# Altium footprint library con-dil.PCBLIB: 24 footprints (part 1 of 2)
Each footprint in its own frame and in the unit in brackets; x right, y up, seen from the top. Pads: shape width x height; smd on the part's side, far side on the other; paste and mask are expansions set on the pad; w line width, h text height; cw(c..) or ccw(c..) is an arc to the next point about the centre after c.
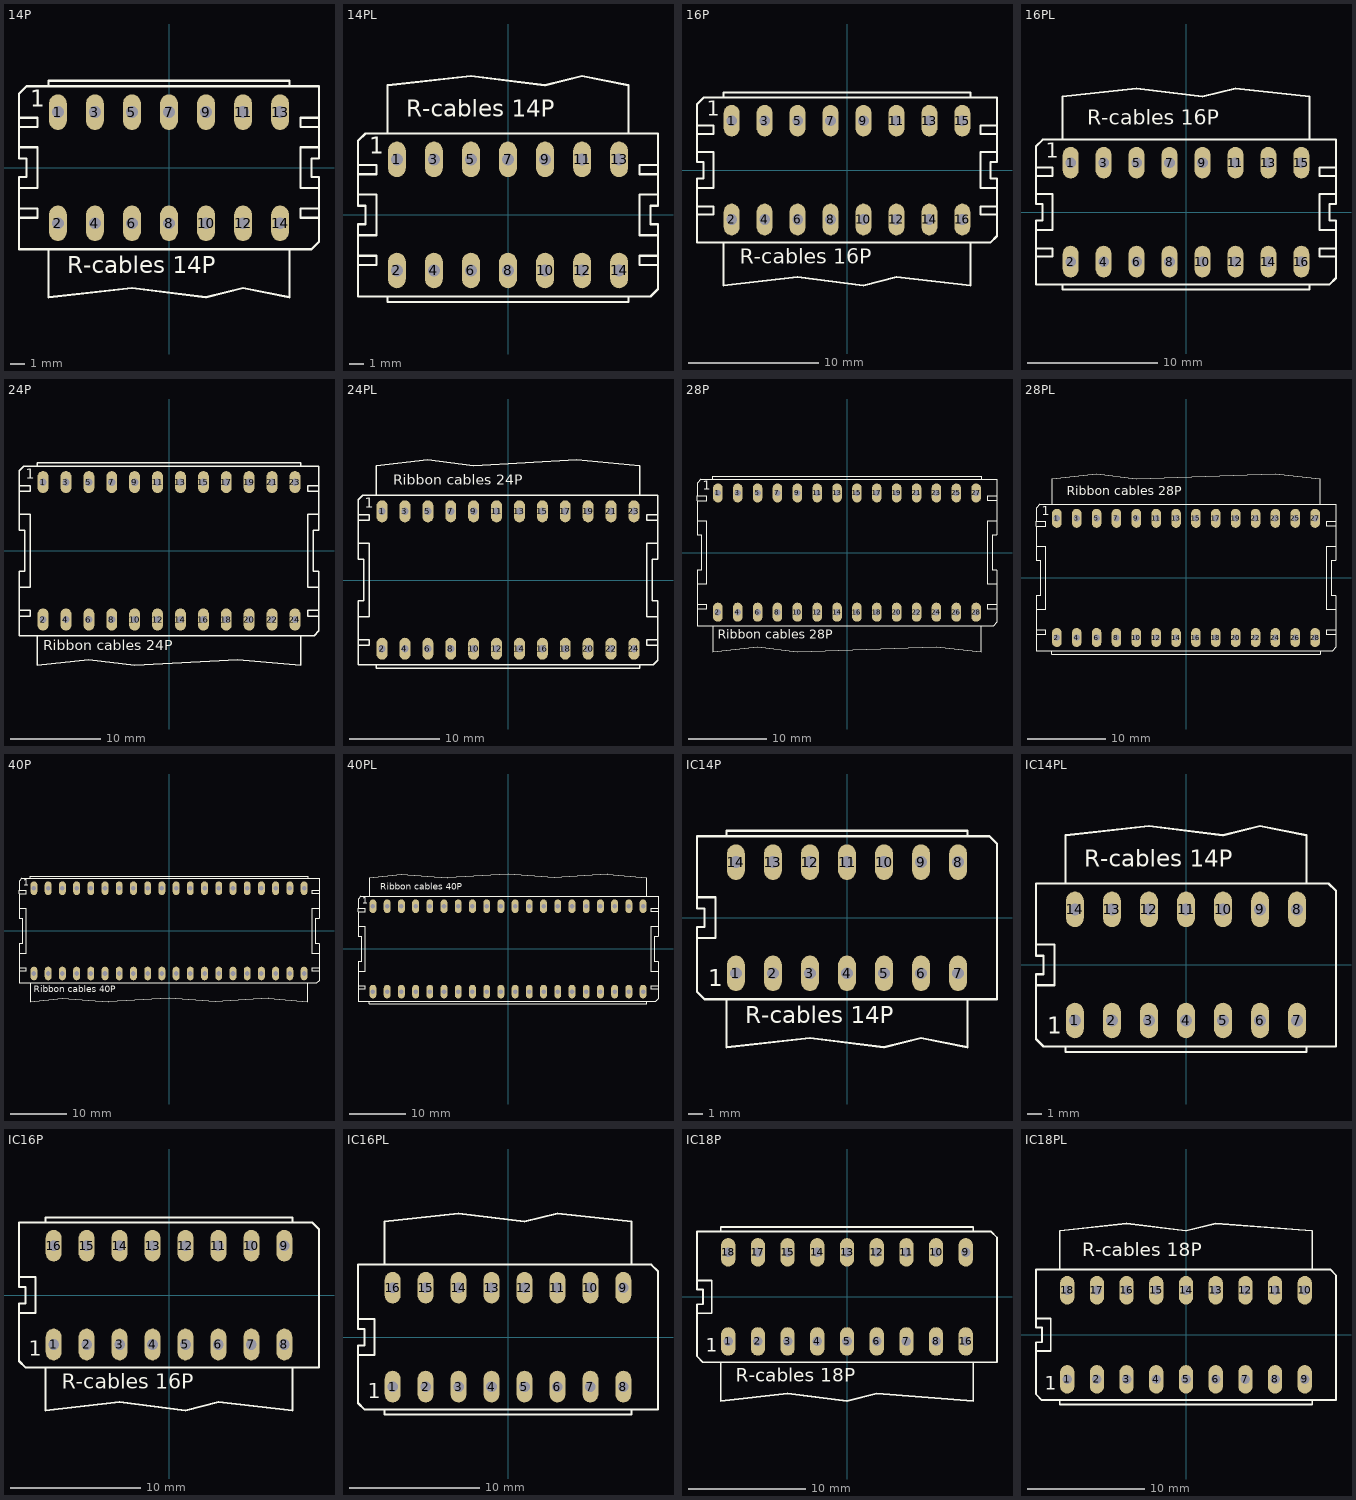
[diagram p0: the footprints below, top view; thin cyan lines are the x and y axes]

## 14P [mil]
pads (14):
  oval 48x96 hole 32: 1(-300,150) 2(-300,-150) 3(-200,150) 4(-200,-150) 5(-100,150) 6(-100,-150) 7(0,150) 8(0,-150) 9(100,150) 10(100,-150) 11(200,150) 12(200,-150) 13(300,150) 14(300,-150)
Top Overlay:
  lines w6: -405,-135 -355,-135 -355,-110 -405,-110 ; -405,-135 -405,-220 -325,-220 ; -405,-135 -405,-110 ; -405,-110 -405,-55 ; -405,-55 -355,-55 -355,55 -405,55 ; -405,-55 -405,-25 -385,-25 -385,25 -405,25 -405,55 ; -405,55 -405,110 ; -405,110 -355,110 -355,135 -405,135 ; -405,110 -405,135 ; -405,135 -405,200 -385,220 -325,220 ; -325,-220 -325,-350 -100,-325 100,-350 200,-325 325,-350 325,-220 ; -325,-220 325,-220 ; -325,220 -325,235 325,235 325,220 ; -325,220 325,220 ; 325,-220 385,-220 405,-200 405,-135 ; 325,220 405,220 405,135 ; 405,-135 355,-135 355,-110 405,-110 ; 405,-135 405,-110 ; 405,-110 405,-55 ; 405,-55 355,-55 355,55 405,55 ; 405,-55 405,-25 385,-25 385,25 405,25 405,55 ; 405,55 405,110 ; 405,110 355,110 355,135 405,135 ; 405,110 405,135
  text "1" at -375,150 h77.5
  text "R-cables 14P" at -275,-300 h77.5

## 14PL [mil]
pads (14):
  oval 48x96 hole 32: 1(-300,150) 2(-300,-150) 3(-200,150) 4(-200,-150) 5(-100,150) 6(-100,-150) 7(0,150) 8(0,-150) 9(100,150) 10(100,-150) 11(200,150) 12(200,-150) 13(300,150) 14(300,-150)
Top Overlay:
  lines w6: -405,-135 -355,-135 -355,-110 -405,-110 ; -405,-135 -405,-220 -325,-220 ; -405,-135 -405,-110 ; -405,-110 -405,-55 ; -405,-55 -355,-55 -355,55 -405,55 ; -405,-55 -405,-25 -385,-25 -385,25 -405,25 -405,55 ; -405,55 -405,110 ; -405,110 -355,110 -355,135 -405,135 ; -405,110 -405,135 ; -405,135 -405,200 -385,220 -325,220 ; -325,-220 325,-220 ; -325,-220 -325,-235 325,-235 325,-220 ; -325,220 325,220 ; -325,220 -325,350 -100,375 100,350 200,375 325,350 325,220 ; 325,-220 385,-220 405,-200 405,-135 ; 325,220 405,220 405,135 ; 405,-135 355,-135 355,-110 405,-110 ; 405,-135 405,-110 ; 405,-110 405,-55 ; 405,-55 355,-55 355,55 405,55 ; 405,-55 405,-25 385,-25 385,25 405,25 405,55 ; 405,55 405,110 ; 405,110 355,110 355,135 405,135 ; 405,110 405,135
  text "1" at -375,150 h77.5
  text "R-cables 14P" at -275,250 h77.5

## 16P [mil]
pads (16):
  oval 48x96 hole 32: 1(-350,150) 2(-350,-150) 3(-250,150) 4(-250,-150) 5(-150,150) 6(-150,-150) 7(-50,150) 8(-50,-150) 9(50,150) 10(50,-150) 11(150,150) 12(150,-150) 13(250,150) 14(250,-150) 15(350,150) 16(350,-150)
Top Overlay:
  lines w6: -455,-135 -405,-135 -405,-110 -455,-110 ; -455,-135 -455,-220 -375,-220 ; -455,-135 -455,-110 ; -455,-110 -455,-55 ; -455,-55 -405,-55 -405,55 -455,55 ; -455,-55 -455,-25 -435,-25 -435,25 -455,25 -455,55 ; -455,55 -455,110 ; -455,110 -405,110 -405,135 -455,135 ; -455,110 -455,135 ; -455,135 -455,200 -435,220 -375,220 ; -375,-220 -375,-350 -150,-325 50,-350 150,-325 375,-350 375,-220 ; -375,-220 375,-220 ; -375,220 -375,235 375,235 375,220 ; -375,220 375,220 ; 375,-220 435,-220 455,-200 455,-135 ; 375,220 455,220 455,135 ; 455,-135 405,-135 405,-110 455,-110 ; 455,-135 455,-110 ; 455,-110 455,-55 ; 455,-55 405,-55 405,55 455,55 ; 455,-55 455,-25 435,-25 435,25 455,25 455,55 ; 455,55 455,110 ; 455,110 405,110 405,135 455,135 ; 455,110 455,135
  text "1" at -425,150 h77.5
  text "R-cables 16P" at -325,-300 h77.5

## 16PL [mil]
pads (16):
  oval 48x96 hole 32: 1(-350,150) 2(-350,-150) 3(-250,150) 4(-250,-150) 5(-150,150) 6(-150,-150) 7(-50,150) 8(-50,-150) 9(50,150) 10(50,-150) 11(150,150) 12(150,-150) 13(250,150) 14(250,-150) 15(350,150) 16(350,-150)
Top Overlay:
  lines w6: -455,-135 -405,-135 -405,-110 -455,-110 ; -455,-135 -455,-220 -375,-220 ; -455,-135 -455,-110 ; -455,-110 -455,-55 ; -455,-55 -405,-55 -405,55 -455,55 ; -455,-55 -455,-25 -435,-25 -435,25 -455,25 -455,55 ; -455,55 -455,110 ; -455,110 -405,110 -405,135 -455,135 ; -455,110 -455,135 ; -455,135 -455,200 -435,220 -375,220 ; -375,-220 -375,-235 375,-235 375,-220 ; -375,-220 375,-220 ; -375,220 -375,350 -150,375 50,350 150,375 375,350 375,220 ; -375,220 375,220 ; 375,-220 435,-220 455,-200 455,-135 ; 375,220 455,220 455,135 ; 455,-135 405,-135 405,-110 455,-110 ; 455,-135 455,-110 ; 455,-110 455,-55 ; 455,-55 405,-55 405,55 455,55 ; 455,-55 455,-25 435,-25 435,25 455,25 455,55 ; 455,55 455,110 ; 455,110 405,110 405,135 455,135 ; 455,110 455,135
  text "1" at -425,150 h77.5
  text "R-cables 16P" at -300,250 h77.5

## 24P [mil]
pads (24):
  oval 48x96 hole 32: 1(-550,300) 2(-550,-300) 3(-450,300) 4(-450,-300) 5(-350,300) 6(-350,-300) 7(-250,300) 8(-250,-300) 9(-150,300) 10(-150,-300) 11(-50,300) 12(-50,-300) 13(50,300) 14(50,-300) 15(150,300) 16(150,-300) 17(250,300) 18(250,-300) 19(350,300) 20(350,-300) 21(450,300) 22(450,-300) 23(550,300) 24(550,-300)
Top Overlay:
  lines w6: -655,-285 -605,-285 -605,-260 -655,-260 ; -655,-285 -655,-370 -575,-370 ; -655,-285 -655,-260 ; -655,-260 -655,-160 ; -655,-160 -605,-160 -605,160 -655,160 ; -655,-160 -655,-90 -630,-90 -630,90 -655,90 -655,160 ; -655,160 -655,260 ; -655,260 -605,260 -605,285 -655,285 ; -655,260 -655,285 ; -655,285 -655,350 -635,370 -575,370 ; -575,-370 -575,-500 -350,-475 -150,-500 300,-475 575,-500 575,-370 ; -575,-370 575,-370 ; -575,370 -575,385 575,385 575,370 ; -575,370 575,370 ; 575,-370 635,-370 655,-350 655,-285 ; 575,370 655,370 655,285 ; 655,-285 605,-285 605,-260 655,-260 ; 655,-285 655,-260 ; 655,-260 655,-160 ; 655,-160 605,-160 605,160 655,160 ; 655,-160 655,-90 630,-90 630,90 655,90 655,160 ; 655,160 655,260 ; 655,260 605,260 605,285 655,285 ; 655,260 655,285
  text "1" at -625,300 h77.5
  text "Ribbon cables 24P" at -550,-450 h77.5

## 24PL [mil]
pads (24):
  oval 48x96 hole 32: 1(-550,300) 2(-550,-300) 3(-450,300) 4(-450,-300) 5(-350,300) 6(-350,-300) 7(-250,300) 8(-250,-300) 9(-150,300) 10(-150,-300) 11(-50,300) 12(-50,-300) 13(50,300) 14(50,-300) 15(150,300) 16(150,-300) 17(250,300) 18(250,-300) 19(350,300) 20(350,-300) 21(450,300) 22(450,-300) 23(550,300) 24(550,-300)
Top Overlay:
  lines w6: -655,-285 -605,-285 -605,-260 -655,-260 ; -655,-285 -655,-370 -575,-370 ; -655,-285 -655,-260 ; -655,-260 -655,-160 ; -655,-160 -605,-160 -605,160 -655,160 ; -655,-160 -655,-90 -630,-90 -630,90 -655,90 -655,160 ; -655,160 -655,260 ; -655,260 -605,260 -605,285 -655,285 ; -655,260 -655,285 ; -655,285 -655,350 -635,370 -575,370 ; -575,-370 575,-370 ; -575,-370 -575,-385 575,-385 575,-370 ; -575,370 -575,500 -350,525 -150,500 300,525 575,500 575,370 ; -575,370 575,370 ; 575,-370 635,-370 655,-350 655,-285 ; 575,370 655,370 655,285 ; 655,-285 605,-285 605,-260 655,-260 ; 655,-285 655,-260 ; 655,-260 655,-160 ; 655,-160 605,-160 605,160 655,160 ; 655,-160 655,-90 630,-90 630,90 655,90 655,160 ; 655,160 655,260 ; 655,260 605,260 605,285 655,285 ; 655,260 655,285
  text "1" at -625,300 h77.5
  text "Ribbon cables 24P" at -500,400 h77.5

## 28P [mil]
pads (28):
  oval 48x96 hole 32: 1(-650,300) 2(-650,-300) 3(-550,300) 4(-550,-300) 5(-450,300) 6(-450,-300) 7(-350,300) 8(-350,-300) 9(-250,300) 10(-250,-300) 11(-150,300) 12(-150,-300) 13(-50,300) 14(-50,-300) 15(50,300) 16(50,-300) 17(150,300) 18(150,-300) 19(250,300) 20(250,-300) 21(350,300) 22(350,-300) 23(450,300) 24(450,-300) 25(550,300) 26(550,-300) 27(650,300) 28(650,-300)
Top Overlay:
  lines w6: -755,-285 -705,-285 -705,-260 -755,-260 ; -755,-285 -755,-370 -675,-370 ; -755,-285 -755,-260 ; -755,-260 -755,-160 ; -755,-160 -705,-160 -705,160 -755,160 ; -755,-160 -755,-90 -730,-90 -730,90 -755,90 -755,160 ; -755,160 -755,260 ; -755,260 -705,260 -705,285 -755,285 ; -755,260 -755,285 ; -755,285 -755,350 -735,370 -675,370 ; -675,-370 -675,-500 -450,-475 -250,-500 450,-475 675,-500 675,-370 ; -675,-370 675,-370 ; -675,370 -675,385 675,385 675,370 ; -675,370 675,370 ; 675,-370 735,-370 755,-350 755,-285 ; 675,370 755,370 755,285 ; 755,-285 705,-285 705,-260 755,-260 ; 755,-285 755,-260 ; 755,-260 755,-160 ; 755,-160 705,-160 705,160 755,160 ; 755,-160 755,-90 730,-90 730,90 755,90 755,160 ; 755,160 755,260 ; 755,260 705,260 705,285 755,285 ; 755,260 755,285
  text "1" at -725,300 h77.5
  text "Ribbon cables 28P" at -650,-450 h77.5

## 28PL [mil]
pads (28):
  oval 48x96 hole 32: 1(-650,300) 2(-650,-300) 3(-550,300) 4(-550,-300) 5(-450,300) 6(-450,-300) 7(-350,300) 8(-350,-300) 9(-250,300) 10(-250,-300) 11(-150,300) 12(-150,-300) 13(-50,300) 14(-50,-300) 15(50,300) 16(50,-300) 17(150,300) 18(150,-300) 19(250,300) 20(250,-300) 21(350,300) 22(350,-300) 23(450,300) 24(450,-300) 25(550,300) 26(550,-300) 27(650,300) 28(650,-300)
Top Overlay:
  lines w6: -755,-285 -705,-285 -705,-260 -755,-260 ; -755,-285 -755,-370 -675,-370 ; -755,-285 -755,-260 ; -755,-260 -755,-160 ; -755,-160 -705,-160 -705,160 -755,160 ; -755,-160 -755,-90 -730,-90 -730,90 -755,90 -755,160 ; -755,160 -755,260 ; -755,260 -705,260 -705,285 -755,285 ; -755,260 -755,285 ; -755,285 -755,350 -735,370 -675,370 ; -675,-370 -675,-385 675,-385 675,-370 ; -675,-370 675,-370 ; -675,370 675,370 ; -675,370 -675,500 -450,525 -250,500 450,525 675,500 675,370 ; 675,-370 735,-370 755,-350 755,-285 ; 675,370 755,370 755,285 ; 755,-285 705,-285 705,-260 755,-260 ; 755,-285 755,-260 ; 755,-260 755,-160 ; 755,-160 705,-160 705,160 755,160 ; 755,-160 755,-90 730,-90 730,90 755,90 755,160 ; 755,160 755,260 ; 755,260 705,260 705,285 755,285 ; 755,260 755,285
  text "1" at -725,300 h77.5
  text "Ribbon cables 28P" at -600,400 h77.5

## 40P [mil]
pads (40):
  oval 48x96 hole 32: 1(-950,300) 2(-950,-300) 3(-850,300) 4(-850,-300) 5(-750,300) 6(-750,-300) 7(-650,300) 8(-650,-300) 9(-550,300) 10(-550,-300) 11(-450,300) 12(-450,-300) 13(-350,300) 14(-350,-300) 15(-250,300) 16(-250,-300) 17(-150,300) 18(-150,-300) 19(-50,300) 20(-50,-300) 21(50,300) 22(50,-300) 23(150,300) 24(150,-300) 25(250,300) 26(250,-300) 27(350,300) 28(350,-300) 29(450,300) 30(450,-300) 31(550,300) 32(550,-300) 33(650,300) 34(650,-300) 35(750,300) 36(750,-300) 37(850,300) 38(850,-300) 39(950,300) 40(950,-300)
Top Overlay:
  lines w6: -1055,-285 -1005,-285 -1005,-260 -1055,-260 ; -1055,-285 -1055,-370 -975,-370 ; -1055,-285 -1055,-260 ; -1055,-260 -1055,-160 ; -1055,-160 -1005,-160 -1005,160 -1055,160 ; -1055,-160 -1055,-90 -1030,-90 -1030,90 -1055,90 -1055,160 ; -1055,160 -1055,260 ; -1055,260 -1005,260 -1005,285 -1055,285 ; -1055,260 -1055,285 ; -1055,285 -1055,350 -1035,370 -975,370 ; -975,-370 -975,-500 -750,-475 -425,-500 0,-475 325,-500 700,-475 975,-500 975,-370 ; -975,-370 975,-370 ; -975,370 -975,385 975,385 975,370 ; -975,370 975,370 ; 975,-370 1035,-370 1055,-350 1055,-285 ; 975,370 1055,370 1055,285 ; 1055,-285 1005,-285 1005,-260 1055,-260 ; 1055,-285 1055,-260 ; 1055,-260 1055,-160 ; 1055,-160 1005,-160 1005,160 1055,160 ; 1055,-160 1055,-90 1030,-90 1030,90 1055,90 1055,160 ; 1055,160 1055,260 ; 1055,260 1005,260 1005,285 1055,285 ; 1055,260 1055,285
  text "1" at -1025,300 h77.5
  text "Ribbon cables 40P" at -950,-450 h77.5

## 40PL [mil]
pads (40):
  oval 48x96 hole 32: 1(-950,300) 2(-950,-300) 3(-850,300) 4(-850,-300) 5(-750,300) 6(-750,-300) 7(-650,300) 8(-650,-300) 9(-550,300) 10(-550,-300) 11(-450,300) 12(-450,-300) 13(-350,300) 14(-350,-300) 15(-250,300) 16(-250,-300) 17(-150,300) 18(-150,-300) 19(-50,300) 20(-50,-300) 21(50,300) 22(50,-300) 23(150,300) 24(150,-300) 25(250,300) 26(250,-300) 27(350,300) 28(350,-300) 29(450,300) 30(450,-300) 31(550,300) 32(550,-300) 33(650,300) 34(650,-300) 35(750,300) 36(750,-300) 37(850,300) 38(850,-300) 39(950,300) 40(950,-300)
Top Overlay:
  lines w6: -1055,-285 -1005,-285 -1005,-260 -1055,-260 ; -1055,-285 -1055,-370 -975,-370 ; -1055,-285 -1055,-260 ; -1055,-260 -1055,-160 ; -1055,-160 -1005,-160 -1005,160 -1055,160 ; -1055,-160 -1055,-90 -1030,-90 -1030,90 -1055,90 -1055,160 ; -1055,160 -1055,260 ; -1055,260 -1005,260 -1005,285 -1055,285 ; -1055,260 -1055,285 ; -1055,285 -1055,350 -1035,370 -975,370 ; -975,-370 -975,-385 975,-385 975,-370 ; -975,-370 975,-370 ; -975,370 -975,500 -750,525 -425,500 0,525 325,500 700,525 975,500 975,370 ; -975,370 975,370 ; 975,-370 1035,-370 1055,-350 1055,-285 ; 975,370 1055,370 1055,285 ; 1055,-285 1005,-285 1005,-260 1055,-260 ; 1055,-285 1055,-260 ; 1055,-260 1055,-160 ; 1055,-160 1005,-160 1005,160 1055,160 ; 1055,-160 1055,-90 1030,-90 1030,90 1055,90 1055,160 ; 1055,160 1055,260 ; 1055,260 1005,260 1005,285 1055,285 ; 1055,260 1055,285
  text "1" at -1025,300 h77.5
  text "Ribbon cables 40P" at -900,400 h77.5

## IC14P [mil]
pads (14):
  oval 48x96 hole 32: 1(-300,-150) 2(-200,-150) 3(-100,-150) 4(0,-150) 5(100,-150) 6(200,-150) 7(300,-150) 8(300,150) 9(200,150) 10(100,150) 11(0,150) 12(-100,150) 13(-200,150) 14(-300,150)
Top Overlay:
  lines w6: -405,-55 -355,-55 -355,55 -405,55 ; -405,-55 -405,-25 -385,-25 -385,25 -405,25 -405,55 ; -405,-55 -405,-200 -385,-220 -325,-220 ; -405,55 -405,220 -325,220 ; -325,-220 -325,-350 -100,-325 100,-350 200,-325 325,-350 325,-220 ; -325,-220 325,-220 ; -325,220 325,220 ; -325,220 -325,235 325,235 325,220 ; 325,-220 405,-220 405,200 385,220 325,220
  text "1" at -375,-200 h77.5
  text "R-cables 14P" at -275,-300 h77.5

## IC14PL [mil]
pads (14):
  oval 48x96 hole 32: 1(-300,-150) 2(-200,-150) 3(-100,-150) 4(0,-150) 5(100,-150) 6(200,-150) 7(300,-150) 8(300,150) 9(200,150) 10(100,150) 11(0,150) 12(-100,150) 13(-200,150) 14(-300,150)
Top Overlay:
  lines w6: -405,-55 -355,-55 -355,55 -405,55 ; -405,-55 -405,-25 -385,-25 -385,25 -405,25 -405,55 ; -405,-55 -405,-200 -385,-220 -325,-220 ; -405,55 -405,220 -325,220 ; -325,-220 325,-220 ; -325,-220 -325,-235 325,-235 325,-220 ; -325,220 325,220 ; -325,220 -325,350 -100,375 100,350 200,375 325,350 325,220 ; 325,-220 405,-220 405,200 385,220 325,220
  text "1" at -375,-200 h77.5
  text "R-cables 14P" at -275,250 h77.5

## IC16P [mil]
pads (16):
  oval 48x96 hole 32: 1(-350,-150) 2(-250,-150) 3(-150,-150) 4(-50,-150) 5(50,-150) 6(150,-150) 7(250,-150) 8(350,-150) 9(350,150) 10(250,150) 11(150,150) 12(50,150) 13(-50,150) 14(-150,150) 15(-250,150) 16(-350,150)
Top Overlay:
  lines w6: -455,-55 -405,-55 -405,55 -455,55 ; -455,-55 -455,-25 -435,-25 -435,25 -455,25 -455,55 ; -455,-55 -455,-200 -435,-220 -375,-220 ; -455,55 -455,220 -375,220 ; -375,-220 -375,-350 -150,-325 50,-350 150,-325 375,-350 375,-220 ; -375,-220 375,-220 ; -375,220 375,220 ; -375,220 -375,235 375,235 375,220 ; 375,-220 455,-220 455,200 435,220 375,220
  text "1" at -425,-200 h77.5
  text "R-cables 16P" at -325,-300 h77.5

## IC16PL [mil]
pads (16):
  oval 48x96 hole 32: 1(-350,-150) 2(-250,-150) 3(-150,-150) 4(-50,-150) 5(50,-150) 6(150,-150) 7(250,-150) 8(350,-150) 9(350,150) 10(250,150) 11(150,150) 12(50,150) 13(-50,150) 14(-150,150) 15(-250,150) 16(-350,150)
Top Overlay:
  lines w6: -455,-55 -405,-55 -405,55 -455,55 ; -455,-55 -455,-25 -435,-25 -435,25 -455,25 -455,55 ; -455,-55 -455,-200 -435,-220 -375,-220 ; -455,55 -455,220 -375,220 ; -375,-220 -375,-235 375,-235 375,-220 ; -375,-220 375,-220 ; -375,220 -375,350 -150,375 50,350 150,375 375,350 375,220 ; -375,220 375,220 ; 375,-220 455,-220 455,200 435,220 375,220
  text "1" at -425,-200 h77.5

## IC18P [mil]
pads (18):
  oval 48x96 hole 32: 1(-400,-150) 2(-300,-150) 3(-200,-150) 4(-100,-150) 5(0,-150) 6(100,-150) 7(200,-150) 8(300,-150) 9(400,150) 10(300,150) 11(200,150) 12(100,150) 13(0,150) 14(-100,150) 15(-200,150) 16(400,-150) 17(-300,150) 18(-400,150)
Top Overlay:
  lines w6: -505,-55 -455,-55 -455,55 -505,55 ; -505,-55 -505,-25 -485,-25 -485,25 -505,25 -505,55 ; -505,-55 -505,-200 -485,-220 -425,-220 ; -505,55 -505,220 -425,220 ; -425,-220 -425,-350 -200,-325 0,-350 100,-325 425,-350 425,-220 ; -425,-220 425,-220 ; -425,220 425,220 ; -425,220 -425,235 425,235 425,220 ; 425,-220 505,-220 505,200 485,220 425,220
  text "1" at -475,-200 h77.5
  text "R-cables 18P" at -375,-300 h77.5

## IC18PL [mil]
pads (18):
  oval 48x96 hole 32: 1(-400,-150) 2(-300,-150) 3(-200,-150) 4(-100,-150) 5(0,-150) 6(100,-150) 7(200,-150) 8(300,-150) 9(400,-150) 10(400,150) 11(300,150) 12(200,150) 13(100,150) 14(0,150) 15(-100,150) 16(-200,150) 17(-300,150) 18(-400,150)
Top Overlay:
  lines w6: -505,-55 -455,-55 -455,55 -505,55 ; -505,-55 -505,-25 -485,-25 -485,25 -505,25 -505,55 ; -505,-55 -505,-200 -485,-220 -425,-220 ; -505,55 -505,220 -425,220 ; -425,-220 -425,-235 425,-235 425,-220 ; -425,-220 425,-220 ; -425,220 -425,350 -200,375 0,350 100,375 425,350 425,220 ; -425,220 425,220 ; 425,-220 505,-220 505,200 485,220 425,220
  text "1" at -475,-200 h77.5
  text "R-cables 18P" at -350,250 h77.5